# EAGLE library part PINHEAD-1X7 (library ch552)
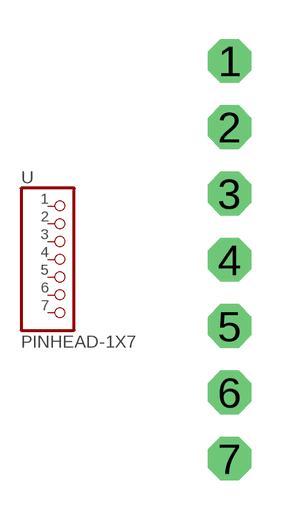
[diagram p2: symbol with the pads of PINHEAD-1X7; footprint PINHEAD-1X7]

Designator prefix -

## PINHEAD-1X7  [PINHEAD-1X7]
1  1  pas
2  2  pas
3  3  pas
4  4  pas
5  5  pas
6  6  pas
7  7  pas

## Footprint PINHEAD-1X7 (pad centres in mm)
drill 1.016 pad 1.676 octagon: 1 0,7.62; 2 0,5.08; 3 0,2.54; 4 0,0; 5 0,-2.54; 6 0,-5.08; 7 0,-7.62